# Altium footprint library GuitarLibrary.PcbLib: 18 footprints (part 1 of 2)
Each footprint in its own frame and in the unit in brackets; x right, y up, seen from the top. Pads: shape width x height; smd on the part's side, far side on the other; paste and mask are expansions set on the pad; w line width, h text height; cw(c..) or ccw(c..) is an arc to the next point about the centre after c.
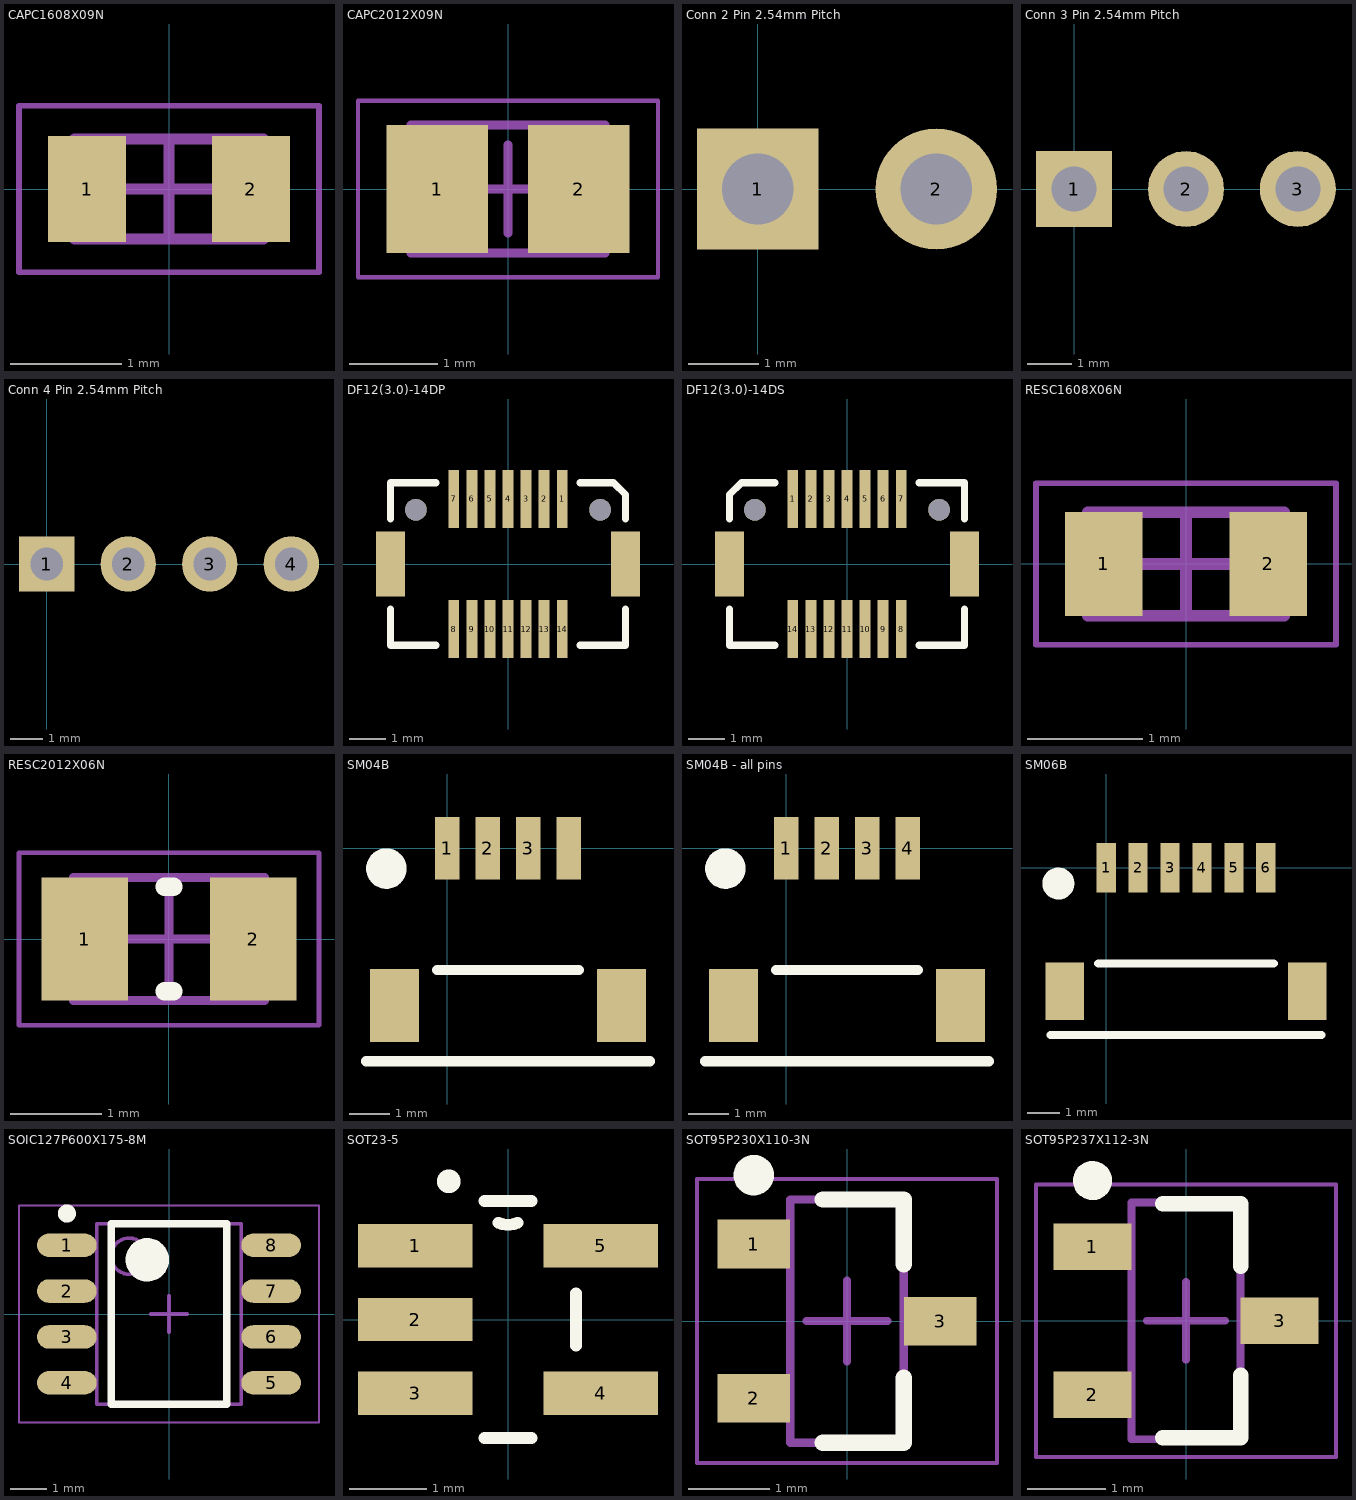
[diagram p0: the footprints below, top view; thin cyan lines are the x and y axes]

## CAPC1608X09N [mm] "Chip Capacitor, 2-Leads, Body 1.60x0.80mm, IPC Medium Density"
height 0.8
pads (2):
  rect 0.7x0.95 smd: 1(-0.737,0) 2(0.738,0)
Mechanical 13:
  lines w0.1: -0.85,-0.45 -0.85,0.45 0.85,0.45 0.85,-0.45 -0.85,-0.45
Mechanical 15:
  lines w0.05: -1.35,-0.75 -1.35,0.75 1.35,0.75 1.35,-0.75 -1.35,-0.75
  lines w0.1: -0.45,0 0.45,0 ; 0,-0.45 0,0.45
3D body "CAPC1608X08N.step": height 0.8, standoff 0, extent -0.85,-0.45 0.85,0.45

## CAPC2012X09N [mm] "Chip Capacitor, 2-Leads, Body 2.00x1.25mm, IPC Medium Density"
height 0.9
pads (2):
  rect 1.15x1.45 smd: 1(-0.8,0) 2(0.8,0)
Mechanical 13:
  lines w0.1: -1.1,-0.725 1.1,-0.725 1.1,0.725 -1.1,0.725 -1.1,-0.725
Mechanical 15:
  lines w0.05: -1.7,-1 1.7,-1 1.7,1 -1.7,1 -1.7,-1
  lines w0.1: -0.5,0 0.5,0 ; 0,-0.5 0,0.5
3D body: height 0.9, standoff 0, extent 0.6,-0.725 1.1,0.725
3D body: height 0.9, standoff 0, extent -1.1,-0.725 -0.6,0.725
3D body: height 0.9, standoff 0, extent -0.6,-0.725 0.6,0.725

## Conn 2 Pin 2.54mm Pitch [mil] "Connector, Through-hole, 2.54mm Pitch"
height 452.76
pads (2):
  rect 68x68 hole 40: 1(0,0)
  round 68 hole 40: 2(100,0)

## Conn 3 Pin 2.54mm Pitch [mil] "Connector, Through-hole, 2.54mm Pitch"
height 452.76
pads (3):
  rect 68x68 hole 40: 1(0,0)
  round 68 hole 40: 2(100,0) 3(200,0)
Mechanical 15:
  lines w3.94: 179.31,0 218.69,0 ; 199,-19.69 199,19.68

## Conn 4 Pin 2.54mm Pitch [mil] "Connector, Through-hole, 2.54mm Pitch"
height 452.76
pads (4):
  rect 68x68 hole 40: 1(0,0)
  round 68 hole 40: 2(100,0) 3(200,0) 4(300,0)
Mechanical 15:
  lines w3.94: 179.31,0 218.69,0 ; 199,-19.69 199,19.68

## DF12(3.0)-14DP [mm] "CONN HEADER 14POS 3MM SMD 0.5MM"
height 2.3
pads (18):
  rect 0.3x1.6 smd mask+0.051: 1(1.5,1.8) 2(1,1.8) 3(0.5,1.8) 4(0,1.8) 5(-0.5,1.8) 6(-1,1.8) 7(-1.5,1.8) 8(-1.5,-1.8) 9(-1,-1.8) 10(-0.5,-1.8) 11(0,-1.8) 12(0.5,-1.8) 13(1,-1.8) 14(1.5,-1.8)
  rect 0.8x1.8 smd mask+0.102: ""(-3.25,0)
  round 0.6 hole 0.6 unplated mask+0: ""(-2.55,1.5) ""(2.55,1.5)
  rect 0.8x1.8 smd: ""(3.25,0)
Top Overlay:
  lines w0.2: -3.25,-1.25 -3.25,-2.25 -2,-2.25 ; -3.25,1.25 -3.25,2.25 -2,2.25 ; 2,-2.25 3.25,-2.25 3.25,-1.25 ; 2,2.25 2.921,2.25 3.25,1.921 3.25,1.25
Multi-Layer:
  region: -4,1
3D body "DF12(3.0)-14DP-0.5V.stp": height 2.29, standoff -0.61, extent -3.3,-2.29 3.3,2.31

## DF12(3.0)-14DS [mm] "CONN RECEPT 14POS 3MM SMD 0.5MM"
height 2.2
pads (18):
  rect 0.3x1.6 smd mask+0.051: 1(-1.5,1.8) 2(-1,1.8) 3(-0.5,1.8) 4(0,1.8) 5(0.5,1.8) 6(1,1.8) 7(1.5,1.8) 8(1.5,-1.8) 9(1,-1.8) 10(0.5,-1.8) 11(0,-1.8) 12(-0.5,-1.8) 13(-1,-1.8) 14(-1.5,-1.8)
  rect 0.8x1.8 smd mask+0.102: ""(-3.25,0)
  round 0.6 hole 0.6 unplated mask+0: ""(-2.55,1.5) ""(2.55,1.5)
  rect 0.8x1.8 smd: ""(3.25,0)
Top Overlay:
  lines w0.2: -3.25,-1.25 -3.25,-2.25 -2,-2.25 ; -3.25,1.25 -3.25,1.921 -2.921,2.25 -2,2.25 ; 2,-2.25 3.25,-2.25 3.25,-1.25 ; 2,2.25 3.25,2.25 3.25,1.25
Multi-Layer:
  region: -4,1
3D body "DF12(3.0)-14DS-0.5V.stp": height 2.19, standoff -0.61, extent -3.3,-2.3 3.3,2.3

## RESC1608X06N [mm] "Chip Resistor, 2-Leads, Body 1.60x0.80mm, IPC Medium Density"
height 0.55
pads (2):
  rect 0.67x0.9 smd: 1(-0.713,0) 2(0.713,0)
Mechanical 13:
  lines w0.1: -0.85,-0.45 -0.85,0.45 0.85,0.45 0.85,-0.45 -0.85,-0.45
Mechanical 15:
  lines w0.05: -1.3,-0.7 -1.3,0.7 1.3,0.7 1.3,-0.7 -1.3,-0.7
  lines w0.1: -0.45,0 0.45,0 ; 0,-0.45 0,0.45
3D body: height 0.55, standoff 0, extent -0.6,-0.45 0.6,0.45
3D body: height 0.55, standoff 0, extent -0.85,-0.45 -0.6,0.45
3D body: height 0.55, standoff 0, extent 0.6,-0.45 0.85,0.45

## RESC2012X06N [mm] "Chip Resistor, 2-Leads, Body 2.00x1.25mm, IPC Medium Density"
height 0.6
pads (2):
  rect 0.95x1.35 smd: 1(-0.925,0) 2(0.925,0)
Top Overlay:
  lines w0.2: -0.05,-0.575 0.05,-0.575 ; -0.05,0.575 0.05,0.575
Mechanical 13:
  lines w0.1: -1.05,-0.675 -1.05,0.675 1.05,0.675 1.05,-0.675 -1.05,-0.675
Mechanical 15:
  lines w0.05: -1.65,-0.95 -1.65,0.95 1.65,0.95 1.65,-0.95 -1.65,-0.95
  lines w0.1: -0.5,0 0.5,0 ; 0,-0.5 0,0.5
3D body: height 0.6, standoff 0, extent -0.75,-0.675 0.75,0.675
3D body: height 0.6, standoff 0, extent -1.05,-0.675 -0.75,0.675
3D body: height 0.6, standoff 0, extent 0.75,-0.675 1.05,0.675

## SM04B [mm] "JST 4 POS 1MM"
pads (6):
  rect 0.6x1.55 smd: 1(0,0) 2(1,0) 3(2,0) ""(3,0)
  rect 1.2x1.8 smd: ""(-1.3,-3.875) ""(4.3,-3.875)
Top Overlay:
  circle w0.5: c-1.5,-0.5 r0.25
  lines w0.254: -2,-5.25 5,-5.25 ; -0.25,-3 3.25,-3
3D body "SM04B-SRSS-TB.STEP": height 2.96, standoff 0, extent -1.5,-4.695 4.5,0.255

## SM04B - all pins [mm] "JST 4 POS 1MM"
pads (6):
  rect 0.6x1.55 smd: 1(0,0) 2(1,0) 3(2,0) 4(3,0)
  rect 1.2x1.8 smd: ""(-1.3,-3.875) ""(4.3,-3.875)
Top Overlay:
  circle w0.5: c-1.5,-0.5 r0.25
  lines w0.254: -2,-5.25 5,-5.25 ; -0.25,-3 3.25,-3
3D body "SM04B-SRSS-TB.STEP": height 2.96, standoff 0, extent -1.5,-4.695 4.5,0.255

## SM06B [mm] "JST 6 POS 1MM"
pads (8):
  rect 0.6x1.55 smd: 1(0,0) 2(1,0) 3(2,0) 4(3,0) 5(4,0) 6(5,0)
  rect 1.2x1.8 smd: ""(-1.3,-3.875) ""(6.3,-3.875)
Top Overlay:
  circle w0.5: c-1.5,-0.5 r0.25
  lines w0.254: -1.75,-5.25 6.75,-5.25 ; -0.25,-3 5.25,-3
3D body "SM06B-SRSS-TB.STEP": height 2.96, standoff 0, extent -1.5,-4.725 6.5,0.225

## SOIC127P600X175-8M [mm] "SOIC, 8-Leads, Body 4.90x3.90mm, Pitch 1.27mm, IPC Low Density"
height 1.75
pads (8):
  oval 1.65x0.65 smd: 1(-2.825,1.905) 2(-2.825,0.635) 3(-2.825,-0.635) 4(-2.825,-1.905) 5(2.825,-1.905) 6(2.825,-0.635) 7(2.825,0.635) 8(2.825,1.905)
Top Overlay:
  circle w0.6: c-0.6,1.5 r0.3
  circle w0.25: c-2.825,2.78 r0.125
  lines w0.2: -1.6,-2.5 1.6,-2.5 1.6,2.5 -1.6,2.5 -1.6,-2.5
Mechanical 13:
  circle w0.1: c-1.1,1.6 r0.5
  lines w0.1: -2,-2.5 2,-2.5 2,2.5 -2,2.5 -2,-2.5
Mechanical 15:
  lines w0.05: -4.15,-3 4.15,-3 4.15,3 -4.15,3 -4.15,-3
  lines w0.1: -0.5,0 0.5,0 ; 0,-0.5 0,0.5
3D body "SOIC127P600X175-8M.step": height 1.75, standoff 0, extent -3,-2.5 3,2.5

## SOT23-5 [mil]
pads (5):
  rect 58x22 smd: 1(-47,37.4) 2(-47,0) 3(-47,-37.4) 4(47,-37.4) 5(47,37.4)
Top Overlay:
  lines w6: -11.91,-60 11.91,-60 ; -11.91,60 11.91,60 ; -4.92,49.05 ccw(c0,60) 4.92,49.05 ; 34.5,-13.3 34.5,13.3
  lines w10: -29.05,69.68 cw(c-30,70) -29,70
3D body "DBV5.stp": height 57.01, standoff 0, extent -59,-60 59,60

## SOT95P230X110-3N [mm] "SOT23, 3-Leads, Body 2.90x2.30mm, Pitch 0.95mm, IPC Medium Density"
height 1.1
pads (3):
  rect 0.9x0.6 smd: 1(-1.15,0.95) 2(-1.15,-0.95) 3(1.15,0)
Top Overlay:
  circle w0.25: c-1.15,1.8 r0.125
  lines w0.2: -0.3,-1.5 0.7,-1.5 0.7,-0.7 ; -0.3,1.5 0.7,1.5 0.7,0.7
Mechanical 13:
  lines w0.1: -0.7,-1.5 -0.7,1.5 0.7,1.5 0.7,-1.5 -0.7,-1.5
Mechanical 15:
  lines w0.05: -1.85,-1.75 -1.85,1.75 1.85,1.75 1.85,-1.75 -1.85,-1.75
  lines w0.1: -0.5,0 0.5,0 ; 0,-0.5 0,0.5
3D body: height 1.1, standoff 0.1, extent -0.7,-1.5 0.7,1.5

## SOT95P237X112-3N [mm] "SOT23, 3-Leads, Body 2.92x2.37mm, Pitch 0.95mm, IPC Medium Density"
height 1.12
pads (3):
  rect 1x0.6 smd: 1(-1.2,0.95) 2(-1.2,-0.95) 3(1.2,0)
Top Overlay:
  circle w0.25: c-1.2,1.8 r0.125
  lines w0.2: -0.3,-1.5 0.7,-1.5 0.7,-0.7 ; -0.3,1.5 0.7,1.5 0.7,0.7
Mechanical 13:
  lines w0.1: -0.7,-1.52 0.7,-1.52 0.7,1.52 -0.7,1.52 -0.7,-1.52
Mechanical 15:
  lines w0.05: -1.925,-1.75 1.925,-1.75 1.925,1.75 -1.925,1.75 -1.925,-1.75
  lines w0.1: -0.5,0 0.5,0 ; 0,-0.5 0,0.5
3D body "SOT95P237X112-3N.step": height 1.12, standoff 0, extent -1.32,-1.52 1.32,1.52